# EAGLE library part NEC-RELAY-EE2 (library Pygmy)
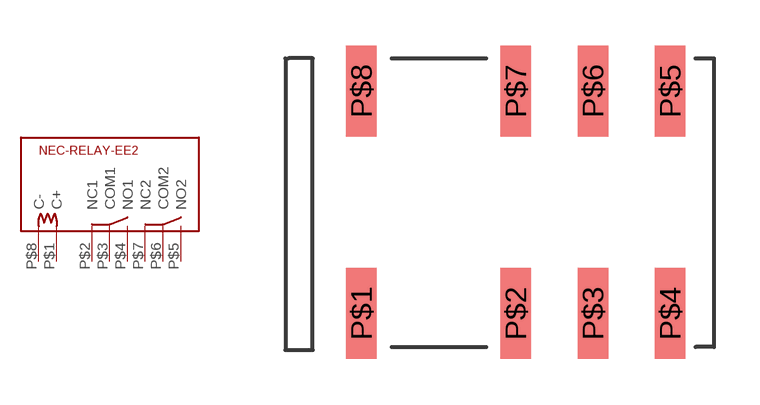
[diagram p23: symbol with the pads of NEC-RELAY-EE2; footprint NEC-RELAY-EE2]

Designator prefix -

## NEC-RELAY-EE2  [NEC-RELAY-EE2]
P$1  C+
P$2  NC1
P$3  COM1
P$4  NO1
P$5  NO2
P$6  COM2
P$7  NC2
P$8  C-

## Footprint NEC-RELAY-EE2 (pad centres in mm)
smd 1 x 3: P$1 0,0; P$2 5.08,0; P$3 7.62,0; P$4 10.16,0; P$5 10.16,7.32; P$6 7.62,7.32; P$7 5.08,7.32; P$8 0,7.32